# Altium footprint library 3.5mmJack.PcbLib: 3 footprints
Each footprint in its own frame and in the unit in brackets; x right, y up, seen from the top. Pads: shape width x height; smd on the part's side, far side on the other; paste and mask are expansions set on the pad; w line width, h text height; cw(c..) or ccw(c..) is an arc to the next point about the centre after c.
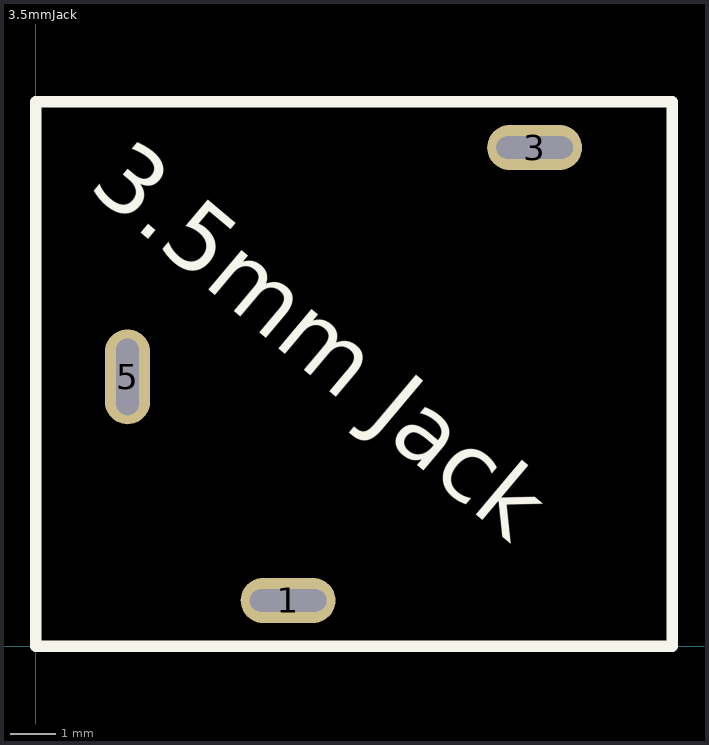
[diagram p0: the footprints below, top view; thin cyan lines are the x and y axes]

## 3.5mmJack [mm]
pads (3):
  oval 2.1x1 hole 0.5 slot 1.7 at 0 deg: 1(5.588,1.016) 3(11.049,11.049)
  oval 1x2.1 hole 0.5 slot 1.7 at 90 deg: 5(2.032,5.969)
Top Overlay:
  lines w0.254: 0,0 14.097,0 14.097,12.065 0,12.065 0,0
  text "3.5mm Jack" at 1.143,10.16 h1.52

## PCBComponent_1 [mm]

## PCBComponent_1 - duplicate [mm]